# EAGLE library part RESISTOR_PACK_9 (library 326298_rev_a)
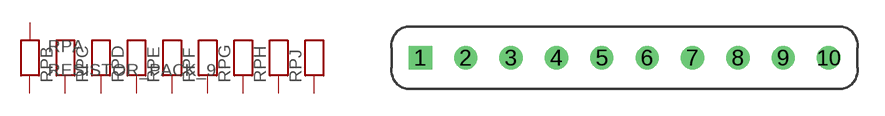
[diagram p27: symbol with the pads of RESISTOR_PACK_9; footprint RESISTOR_PACK_9]

Designator prefix RP; gates A=RP1 B=RPX C=RPX D=RPX E=RPX F=RPX G=RPX H=RPX J=RPX

## RESISTOR_PACK_9  [RESISTOR_PACK_9]
1  A:1  pas
2  A:2  pas
3  B:X  pas
4  C:X  pas
5  D:X  pas
6  E:X  pas
7  F:X  pas
8  G:X  pas
9  H:X  pas
10  J:X  pas

## Footprint RESISTOR_PACK_9 (pad centres in mm)
drill 0.8 square: 1 0,0
drill 0.8: 2 2.54,0; 3 5.08,0; 4 7.62,0; 5 10.16,0; 6 12.7,0; 7 15.24,0; 8 17.78,0; 9 20.32,0; 10 22.86,0